# EAGLE library part WE-LAN-10/100-BASE-T,749014018 (library Wurth_Elektronik_EMC_COMPONENTS_rev16c)
WE-LAN LAN Transformer 10/100 Base T - Compliant with IEEE 802.3, IEEE 802.3af and IEEE 802.3at standards - SMT -- Ethernet -- Power over Ethernet -- 1 Gigabit Ethernet -- Compliant with most IC's for ethernet applications like Intel, AMD, Globespan and Realtek -- Hub, Router, Switch <http://katalog.we-online.de/media/images/v2/Family_WE-LAN.jpg> Details see: http://katalog.we-online.de/en/pbs/WE-LAN/7490100111A 2016 (C) Würth Elektronik
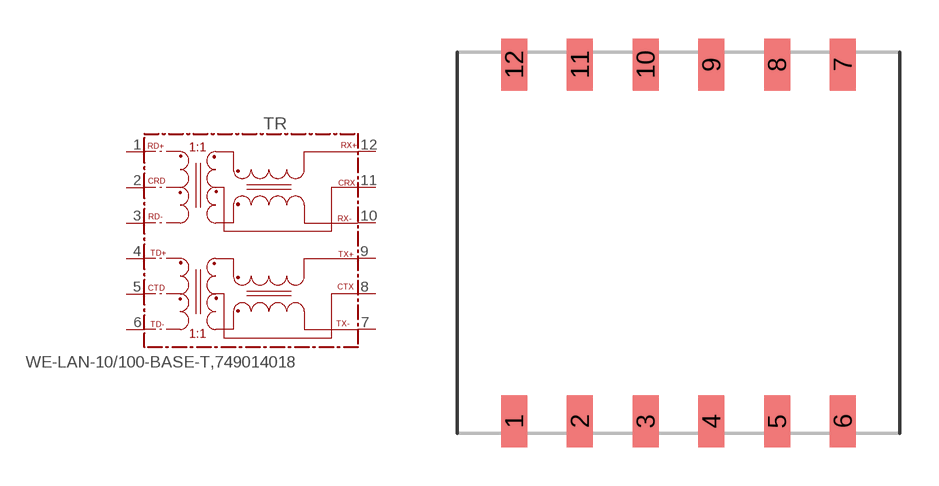
[diagram p225: symbol with the pads of 749014018; footprint 749014018]

Designator prefix TR

## WE-LAN-10/100-BASE-T,749014018  [749014018]
1  RD+
2  CRD
3  RD-
4  TD+
5  CTD
6  TD-
7  TX-
8  CTX
9  TX+
10  RX-
11  CRX
12  RX+

## Footprint 749014018 (pad centres in mm)
smd 1 x 2: 1 -6.35,-6.9; 2 -3.81,-6.9; 3 -1.27,-6.9; 4 1.27,-6.9; 5 3.81,-6.9; 6 6.35,-6.9; 7 6.35,6.9; 8 3.81,6.9; 9 1.27,6.9; 10 -1.27,6.9; 11 -3.81,6.9; 12 -6.35,6.9